# EAGLE library part ULN2003BN (library EE445L)
High-voltage High-current Darlington Transistor Array Source: Datasheet <http://www.ti.com/lit/gpn/uln2003b>
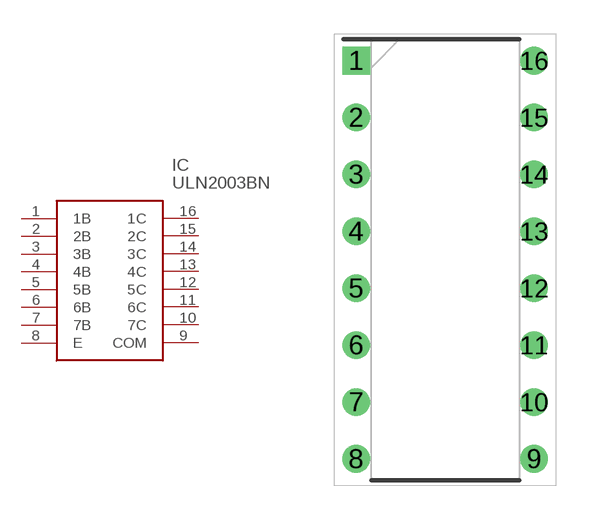
[diagram p32: symbol with the pads of DIP794W53P254L1930H508Q16N; footprint DIP794W53P254L1930H508Q16N]

Designator prefix IC

## ULN2003BN (DESCRIPTION: High-voltage High-current Darlington Transistor Array; HEIGHT: 5.08mm; MANUFACTURER_NAME: Texas Instruments; MANUFACTURER_PART_NUMBER: ULN2003BN; MOUSER2_PART_NUMBER: 595-ULN2003BN; MOUSER2_PRICE-STOCK: https://www.mouser.com/Search/Refine.aspx?Keyword=595-ULN2003BN)  [DIP794W53P254L1930H508Q16N]
1  1B
2  2B
3  3B
4  4B
5  5B
6  6B
7  7B
8  E
9  COM
10  7C
11  6C
12  5C
13  4C
14  3C
15  2C
16  1C

## Footprint DIP794W53P254L1930H508Q16N (pad centres in mm)
N (R-PDIP-T16)
drill 0.73 pad 1.13 square: 1 -3.97,8.89
drill 0.73 pad 1.13: 2 -3.97,6.35; 3 -3.97,3.81; 4 -3.97,1.27; 5 -3.97,-1.27; 6 -3.97,-3.81; 7 -3.97,-6.35; 8 -3.97,-8.89; 9 3.97,-8.89; 10 3.97,-6.35; 11 3.97,-3.81; 12 3.97,-1.27; 13 3.97,1.27; 14 3.97,3.81; 15 3.97,6.35; 16 3.97,8.89